# Altium schematic symbol library SCHLIB-PCSB_5.1.3.SchLib: 160 symbols
Pins are listed as number, name and electrical type; pins without a type are passive.

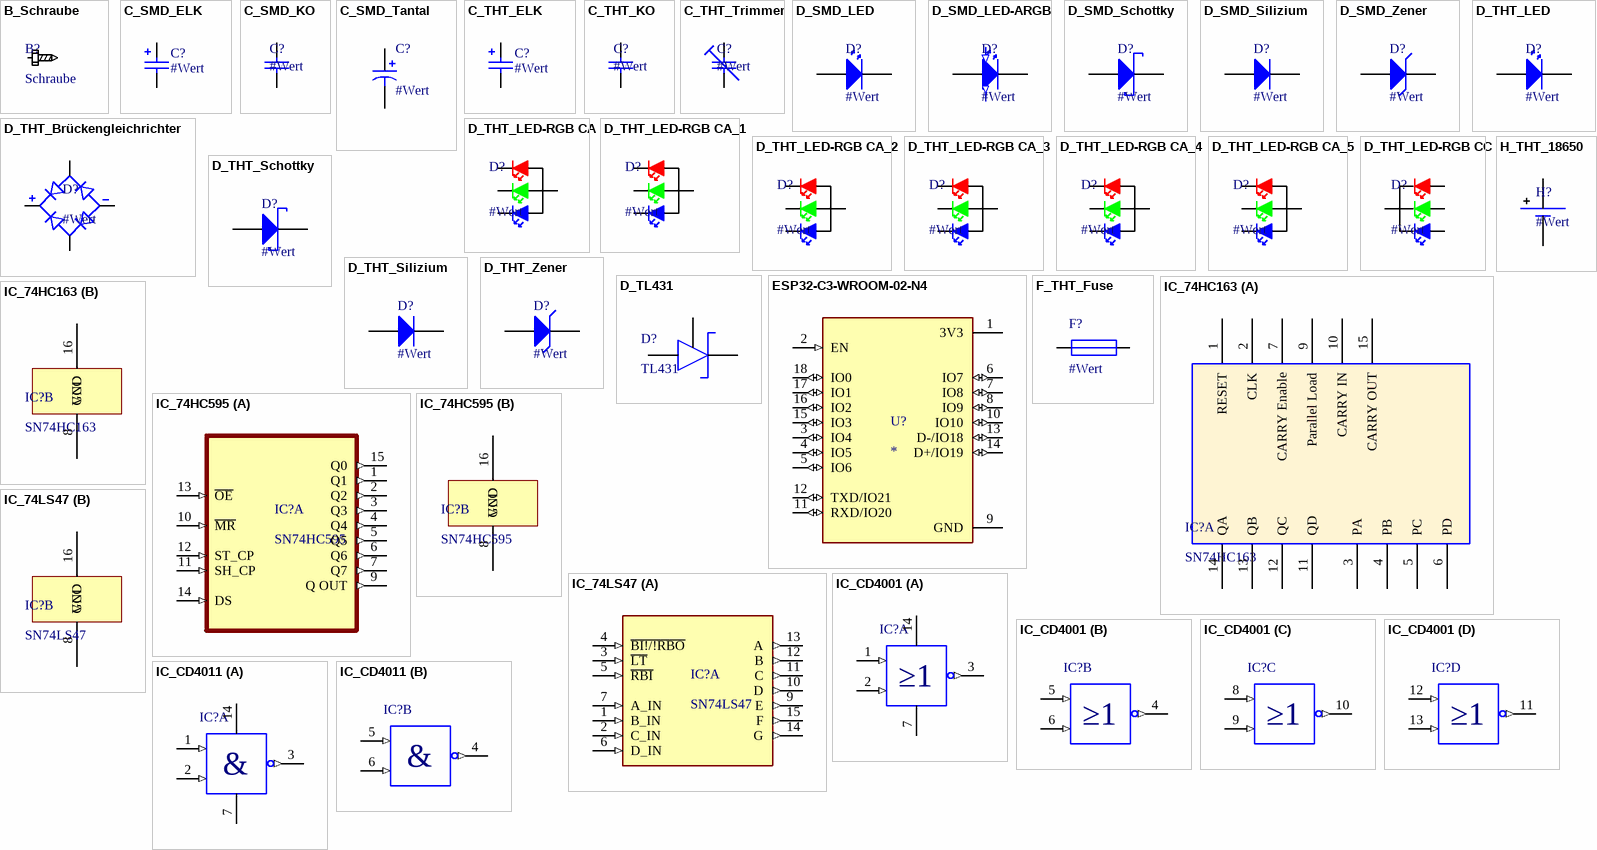
[diagram p0: symbols B_Schraube to IC_CD4011]

## B_Schraube
designator B?, comment Schraube
Schraubenloch für M3 Schrauben
footprint B_Schraube-M3 PAD (LB-2024-04-18)
footprint B_Schraube-M3 (LB-2024-04-18)
pins: 1 PAD

## C_SMD_ELK
designator C?, comment #Wert
SMD Elektrolytkondensator; Spannung: *; Bauform: *; Typ: *
footprint C_SMD_B-Typ (LB-2024-04-16)
footprint C_SMD_C-TYP (LB-2024-04-15)
footprint C_SMD_D-TYP (LB-2024-04-16)
footprint C_SMD_D8-TYP (LB-2024-04-16)
footprint C_SMD_F-TYP (LB-2024-04-16)
footprint C_SMD_G-TYP (LB-2024-04-16)
pins: 1, 2

## C_SMD_KO
designator C?, comment #Wert
Kondensator SMD Universal, Keramik, Folie, usw.; Spannung: *; Bauform: *; Typ: *
footprint C_SMD_0603 (LB-2024-04-17)
footprint C_SMD_0805 (LB-2024-04-17)
footprint C_SMD_1206 (LB-2024-04-17)
footprint C_SMD_1808C (LB-2024-04-17)
footprint C_SMD_2010R (LB-2024-04-17)
pins: 1, 2

## C_SMD_Tantal
designator C?, comment #Wert
Tantalkondensator
footprint C_SMD_Tan_1206 (LB-2024-04-25)
footprint C_SMD_B-Typ (LB-2024-04-16)
footprint C_SMD_C-TYP (LB-2024-04-15)
footprint C_SMD_D-TYP (LB-2024-04-16)
footprint C_SMD_D8-TYP (LB-2024-04-16)
footprint C_SMD_F-TYP (LB-2024-04-16)
footprint C_SMD_G-TYP (LB-2024-04-16)
pins: 1, 2

## C_THT_ELK
designator C?, comment #Wert
THT Elektrolytkondensator; Spannung: *; Bauform: *; Typ: *
footprint C_THT_RB-.3/.6 (LB-2024-04-15)
footprint C_THT_RB-.2/.4 (LB-2024-04-16)
footprint C_THT_RB-.1/.3 (LB-2024-04-15)
footprint C_THT_RB-.1/.2 (LB-2024-04-15)
pins: 1, 2

## C_THT_KO
designator C?, comment #Wert
Kondensator THT Universal, Keramik, Folie, usw.; Spannung: *; Bauform: *; Typ: *
footprint C_THT_RAD-0.2/.1 (LB-2024-04-17)
footprint C_THT_rad-7.2/2.5/5 (LB-2024-04-17)
footprint C_THT_RAD-7.2/3.5/5 (LB-2024-04-17)
footprint C_THT_RAD-.5/1.5
pins: 1, 2

## C_THT_Trimmer
designator C?, comment #Wert
Trimmkondensator; Spannung: *; Typ: *
footprint C_THT_Trimmer (LB-2024-04-19)
pins: 1, 2

## D_SMD_LED
designator D?, comment #Wert
Diode SMD LED; Spannung For.: 1,8V-3,6V; Spannung Rev.: *; Strom: *
footprint D_SMD_0603 (LB-2024-04-17)
footprint D_SMD_0805 (LB-2024-04-17)
footprint D_SMD_1206 (LB-2024-04-17)
footprint D_SMD_1808C (LB-2024-04-17)
footprint D_SMD_2010R (LB-2024-04-17)
pins: 1 A, 2 K

## D_SMD_LED-ARGB
designator D?, comment #Wert
Diode SMD ARGB
footprint D_SMD_LED-ARGB
pins: 1 VDD, 2 DOUT (out), 3 GND, 4 DIN (in)

## D_SMD_Schottky
designator D?, comment #Wert
Diode SMD Schottky; Spannung Rev.: 0,4V; Spannung For.: *; Strom: *
footprint D_SMD_0603 (LB-2024-04-17)
footprint D_SMD_0805 (LB-2024-04-17)
footprint D_SMD_1206 (LB-2024-04-17)
footprint D_SMD_1808C (LB-2024-04-17)
footprint D_SMD_2010R (LB-2024-04-17)
footprint D_SMD_DIO-123 (LB-2024-04-25)
footprint D_DO-214
footprint D_DO-221
pins: 1 A, 2 K

## D_SMD_Silizium
designator D?, comment #Wert
Diode SMD Silizium; Spannung For.: 0,7V; Spannung Rev.: *; Strom: *
footprint D_SMD_0603 (LB-2024-04-17)
footprint D_SMD_0805 (LB-2024-04-17)
footprint D_SMD_1206 (LB-2024-04-17)
footprint D_SMD_1808C (LB-2024-04-17)
footprint D_SMD_2010R (LB-2024-04-17)
footprint SOD-80-2 (SMD-Dioden Footprint z.b.: FDLL4148)
pins: 1 A, 2 K

## D_SMD_Zener
designator D?, comment #Wert
Diode SMD Zener; Spannung For.: *; Spannung Rev.: *; Strom: *
footprint D_SMD_0603 (LB-2024-04-17)
footprint D_SMD_0805 (LB-2024-04-17)
footprint D_SMD_1206 (LB-2024-04-17)
footprint D_SMD_1808C (LB-2024-04-17)
footprint D_SMD_2010R (LB-2024-04-17)
pins: 1 A, 2 K

## D_THT_Brückengleichrichter
designator D?, comment #Wert
Bruckengleichrichter
footprint D_THT_FBR-Gr. (LB-2024-04-18)
footprint D_THT_FBR-Kl. (LB-2024-04-18)
pins: 1 POS, 2 AC1, 3 AC2, 4 NEG

## D_THT_LED
designator D?, comment #Wert
Diode THT LED; Spannung For.: 1,8V-3,6V; Spannung Rev.: *; Strom: *
footprint D_THT_LED-3 (LB-2024-04-17)
footprint D_THT_LED-5 (LB-2024-04-17)
pins: 1 A, 2 K

## D_THT_LED-RGB CA
designator D?, comment #Wert
RGB LED Common Anode
footprint D_THT_RGBLED
pins: 1, 2, 3, 4

## D_THT_LED-RGB CA_1
designator D?, comment #Wert
RGB LED Common Anode
footprint D_THT_RGBLED
pins: 1, 2, 3, 4

## D_THT_LED-RGB CA_2
designator D?, comment #Wert
RGB LED Common Anode
footprint D_THT_RGBLED
pins: 1, 2, 3, 4

## D_THT_LED-RGB CA_3
designator D?, comment #Wert
RGB LED Common Anode
footprint D_THT_RGBLED
pins: 1, 2, 3, 4

## D_THT_LED-RGB CA_4
designator D?, comment #Wert
RGB LED Common Anode
footprint D_THT_RGBLED
pins: 1, 2, 3, 4

## D_THT_LED-RGB CA_5
designator D?, comment #Wert
RGB LED Common Anode
footprint D_THT_RGBLED
pins: 1, 2, 3, 4

## D_THT_LED-RGB CC
designator D?, comment #Wert
RGB LED Common Cathode
footprint D_THT_RGBLED
pins: 1, 2, 3, 4

## D_THT_Schottky
designator D?, comment #Wert
Diode THT Schottky; Spannung For.: 0,4V; Spannung Rev.: *; Strom: *
footprint D_THT_0.4 (LB-2024-04-17)
footprint D_THT_0.5 (LB-2024-04-17)
footprint D_THT_0.6 (LB-2024-04-17)
pins: 1 A, 2 K

## D_THT_Silizium
designator D?, comment #Wert
Diode THT Silizium; Spannung For.: 0,7V; Spannung Rev.: *; Strom: *
footprint D_THT_0.4 (LB-2024-04-17)
footprint D_THT_0.5 (LB-2024-04-17)
footprint D_THT_0.6 (LB-2024-04-17)
pins: 1 A, 2 K

## D_THT_Zener
designator D?, comment #Wert
Diode THT Zener; Spannung For.: *; Spannung Rev.: *; Strom: *
footprint D_THT_0.4 (LB-2024-04-17)
footprint D_THT_0.5 (LB-2024-04-17)
footprint D_THT_0.6 (LB-2024-04-17)
pins: 1 A, 2 K

## D_TL431
designator D?, comment TL431
Programmable Shunt Regulator Diode (NUR OHNE MFDT ENDE)
footprint D_THT_TO-92/3 (LB-2024-04-19)
footprint SOT-23
pins: 1 Kathode, 2 REF, 3 Anode

## ESP32-C3-WROOM-02-N4
designator U?
WiFi Modules (802.11) (Engineering Samples) SMD module, ESP32-C3, 4MB SPI flash, PCB antenna, -40 C +85 C; MF: Espressif Systems; MP: ESP32-C3-WROOM-02-N4; Value: *; SnapEDA_Link: https://www.snapeda.com/parts/ESP32-C3-WROOM-02-N4/Espressif+Systems/view-part/?ref=snap; Purchase-URL: https://pricing.snapeda.com/search/part/ESP32-C3-WROOM-02-N4/?ref=eda; Availability: In Stock; Price: None; Package: Package; Check_prices: https://www.snapeda.com/parts/ESP32-C3-WROOM-02-N4/Espressif+Systems/view-part/?ref=eda
footprint MODULE_ESP32-C3-WROOM-02-H4
pins: 1 3V3 (power), 2 EN (in), 3 IO4 (io), 4 IO5 (io), 5 IO6 (io), 6 IO7 (io), 7 IO8 (io), 8 IO9 (io), 9 GND (power), 10 IO10 (io), 11 RXD/IO20 (io), 12 TXD/IO21 (io), 13 D-/IO18 (io), 14 D+/IO19 (io), 15 IO3 (io), 16 IO2 (io), 17 IO1 (io), 18 IO0 (io)

## F_THT_Fuse
designator F?, comment #Wert
Sicherung; Strom: *; Auslösecharakteristik: *
footprint F_THT_Fuse2pol (LB-2024-04-17)
footprint R_SMD_1206 (LB-2024-04-17)
footprint F_OMF63_Schurtner
pins: 1, 2

## H_THT_18650
designator H?, comment #Wert
Zellenzahlter
footprint W_THT_Batholder_18650 (LB-2024-04-25)
pins: 1 +, 2 -

## IC_74HC163
designator IC?, comment SN74HC163
Counter-IC; Spannung: 2-6V
footprint DIP-16 (LB-2024-04-17)
part A pins: 1 RESET, 2 CLK, 3 PA, 4 PB, 5 PC, 6 PD, 7 CARRY Enable, 9 Parallel Load, 10 CARRY IN, 11 QD, 12 QC, 13 QB, 14 QA, 15 CARRY OUT
part B pins: 8 GND, 16 VCC

## IC_74HC595
designator IC?, comment SN74HC595
Schieberegister; MP: 74HC595PW/AUJ; MF: NXP Semiconductors; Value: *; Package: TSSOP-16 NXP Semiconductors; SnapEDA_Link: https://www.snapeda.com/parts/74HC595PW/AUJ/NXP%20Semiconductors/view-part/1039916/?ref=snap; Digi-Key_Part_Number: 74HC595PW/AUJ-ND
footprint DIP-16 (LB-2024-04-17)
footprint SO-16 (LB-2024-04-17)
footprint SOP-16
part A pins: 1 Q1 (out), 2 Q2 (out), 3 Q3 (out), 4 Q4 (out), 5 Q5 (out), 6 Q6 (out), 7 Q7 (out), 9 Q OUT (out), 10 ~{MR} (in), 11 SH_CP (in), 12 ST_CP (in), 13 ~{OE} (in), 14 DS (in), 15 Q0 (out)
part B pins: 8 GND, 16 VCC

## IC_74LS47
designator IC?, comment SN74LS47
BCD-to-Seven-Segment Decoders/Drivers 16-PDIP 0 to 70; MP: SN74LS47N; MF: Texas Instruments; SnapEDA_Link: https://www.snapeda.com/parts/SN74LS47N/Texas+Instruments/view-part/?ref=snap; Availability: In Stock; Price: None; Check_prices: https://www.snapeda.com/parts/SN74LS47N/Texas+Instruments/view-part/?ref=eda; Value: *; Purchase-URL: https://pricing.snapeda.com/search/part/SN74LS47N/?ref=eda; Package: PDIP-16 Texas Instruments
footprint DIP-16 (LB-2024-04-17)
footprint SO-16 (LB-2024-04-17)
part A pins: 1 B_IN (in), 2 C_IN (in), 3 ~{LT} (in), 4 ~{BI!/!RBO} (in), 5 ~{RBI} (in), 6 D_IN (in), 7 A_IN (in), 9 E (out), 10 D (out), 11 C (out), 12 B (out), 13 A (out), 14 G (out), 15 F (out)
part B pins: 8 GND, 16 VCC

## IC_CD4001
designator IC?, comment CD4001  (value not drawn)
NOR Gatter
footprint DIP-14 (LB-2024-04-17)
footprint SO-14 (LB-2024-04-17)
part A pins: 1 A (in), 2 B (in), 3 OUTAB (out), 7 GND (power), 14 V+ (power)
part B pins: 4 OUTCD (out), 5 C (in), 6 D (in)
part C pins: 8 E (in), 9 F (in), 10 OUTEF (out)
part D pins: 11 OUTGH (out), 12 G (in), 13 H (in)
part A text: ≥1
part B text: ≥1
part C text: ≥1
part D text: ≥1

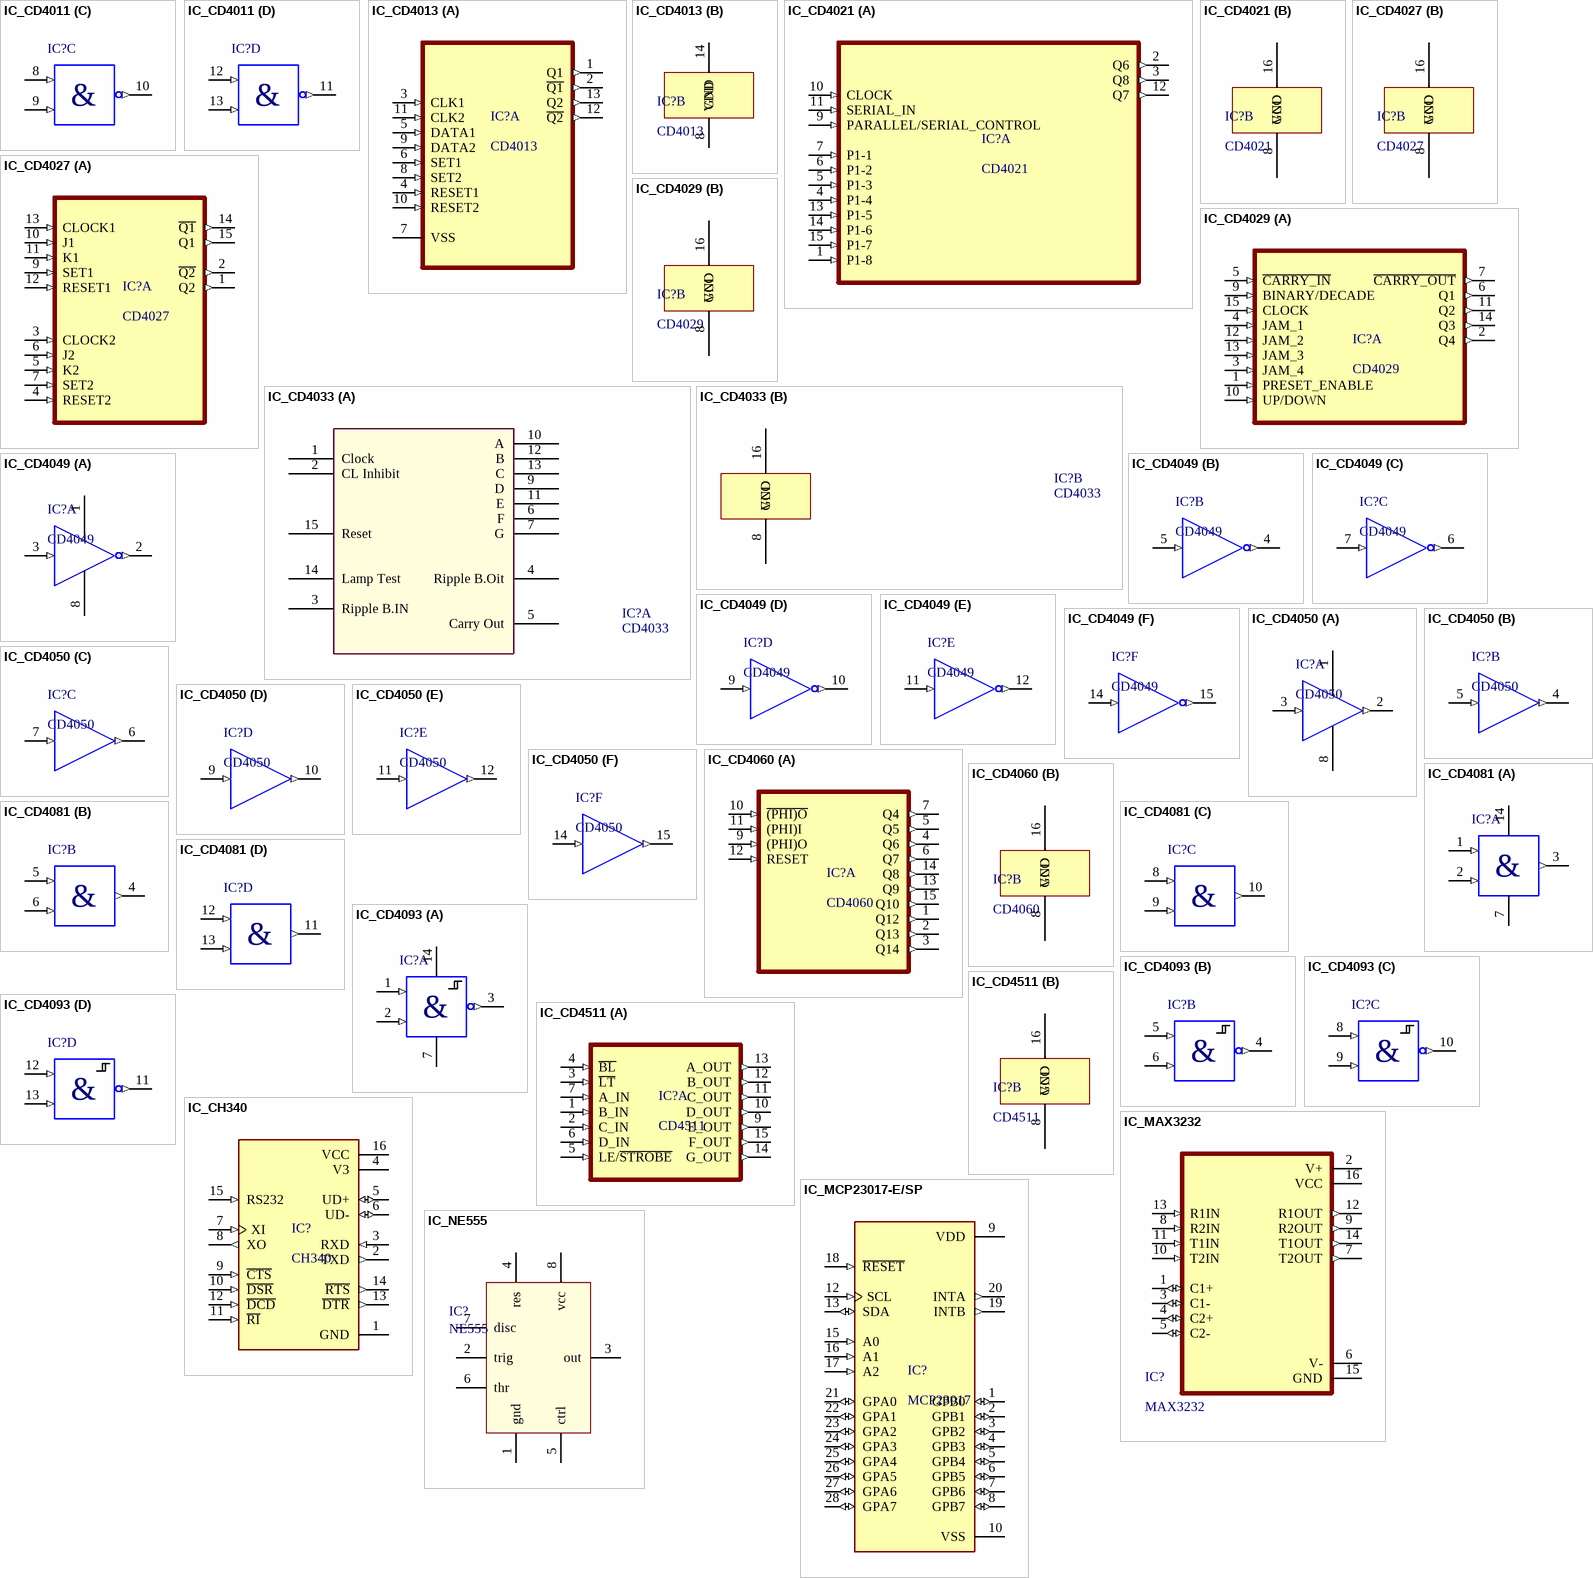
[diagram p1: symbols IC_CD4011 to IC_NE555]

## IC_CD4011
designator IC?, comment CD4011  (value not drawn)
NAND Gatter
footprint DIP-14 (LB-2024-04-17)
footprint SO-14 (LB-2024-04-17)
part A pins: 1 A (in), 2 B (in), 3 OUTAB (out), 7 GND (power), 14 V+ (power)
part B pins: 4 OUTCD (out), 5 C (in), 6 D (in)
part C pins: 8 E (in), 9 F (in), 10 OUTEF (out)
part D pins: 11 OUTGH (out), 12 G (in), 13 H (in)
part A text: &
part B text: &
part C text: &
part D text: &

## IC_CD4013
designator IC?, comment CD4013
D-FlipFlop
footprint SO-14 (LB-2024-04-17)
footprint DIP-14 (LB-2024-04-17)
part A pins: 1 Q1 (out), 2 ~{Q1} (out), 3 CLK1 (in), 4 RESET1 (in), 5 DATA1 (in), 6 SET1 (in), 7 VSS (power), 8 SET2 (in), 9 DATA2 (in), 10 RESET2 (in), 11 CLK2 (in), 12 ~{Q2} (out), 13 Q2 (out)
part B pins: 8 GND, 14 VDD (power)

## IC_CD4021
designator IC?, comment CD4021
Schieberegister
footprint DIP-16 (LB-2024-04-17)
footprint SO-16 (LB-2024-04-17)
part A pins: 1 P1-8 (in), 2 Q6 (out), 3 Q8 (out), 4 P1-4 (in), 5 P1-3 (in), 6 P1-2 (in), 7 P1-1 (in), 9 PARALLEL/SERIAL_CONTROL (in), 10 CLOCK (in), 11 SERIAL_IN (in), 12 Q7 (out), 13 P1-5 (in), 14 P1-6 (in), 15 P1-7 (in)
part B pins: 8 GND, 16 VCC

## IC_CD4027
designator IC?, comment CD4027
JK-FlipFlop
footprint DIP-16 (LB-2024-04-17)
footprint SO-16 (LB-2024-04-17)
part A pins: 1 Q2 (out), 2 ~{Q2} (out), 3 CLOCK2 (in), 4 RESET2 (in), 5 K2 (in), 6 J2 (in), 7 SET2 (in), 9 SET1 (in), 10 J1 (in), 11 K1 (in), 12 RESET1 (in), 13 CLOCK1 (in), 14 ~{Q1} (out), 15 Q1 (out)
part B pins: 8 GND, 16 VCC

## IC_CD4029
designator IC?, comment CD4029
UP/Down Counter
footprint DIP-16 (LB-2024-04-17)
footprint SO-16 (LB-2024-04-17)
part A pins: 1 PRESET_ENABLE (in), 2 Q4 (out), 3 JAM_4 (in), 4 JAM_1 (in), 5 ~{CARRY_IN} (in), 6 Q1 (out), 7 ~{CARRY_OUT} (out), 9 BINARY/DECADE (in), 10 UP/DOWN (in), 11 Q2 (out), 12 JAM_2 (in), 13 JAM_3 (in), 14 Q3 (out), 15 CLOCK (in)
part B pins: 8 GND, 16 VCC

## IC_CD4033
designator IC?, comment CD4033
Counter/Divider
footprint DIP-16 (LB-2024-04-17)
footprint SO-16 (LB-2024-04-17)
part A pins: 1 Clock, 2 CL Inhibit, 3 Ripple B.IN, 4 Ripple B.Oit, 5 Carry Out, 6 F, 7 G, 9 D, 10 A, 11 E, 12 B, 13 C, 14 Lamp Test, 15 Reset
part B pins: 8 GND, 16 VCC

## IC_CD4049
designator IC?, comment CD4049
Hex Inverter
footprint DIP-16 (LB-2024-04-17)
part A pins: 1 V+ (power), 2 OUTAB (out), 3 B (in), 8 GND (power)
part B pins: 4 OUTAB (out), 5 B (in)
part C pins: 6 OUTAB (out), 7 B (in)
part D pins: 9 B (in), 10 OUTAB (out)
part E pins: 11 B (in), 12 OUTAB (out)
part F pins: 14 B (in), 15 OUTAB (out)

## IC_CD4050
designator IC?, comment CD4050
Hex Buffer
footprint DIP-16 (LB-2024-04-17)
part A pins: 1 V+ (power), 2 OUTAB (out), 3 B (in), 8 GND (power)
part B pins: 4 OUTAB (out), 5 B (in)
part C pins: 6 OUTAB (out), 7 B (in)
part D pins: 9 B (in), 10 OUTAB (out)
part E pins: 11 B (in), 12 OUTAB (out)
part F pins: 14 B (in), 15 OUTAB (out)

## IC_CD4060
designator IC?, comment CD4060
14 Stage Counter
footprint DIP-16 (LB-2024-04-17)
footprint SO-16 (LB-2024-04-17)
part A pins: 1 Q12 (out), 2 Q13 (out), 3 Q14 (out), 4 Q6 (out), 5 Q5 (out), 6 Q7 (out), 7 Q4 (out), 9 (PHI)O (in), 10 ~{(PHI)O} (in), 11 (PHI)I (in), 12 RESET (in), 13 Q9 (out), 14 Q8 (out), 15 Q10 (out)
part B pins: 8 GND, 16 VCC

## IC_CD4081
designator IC?, comment CD4081  (value not drawn)
AND Gatter
footprint DIP-14 (LB-2024-04-17)
footprint SO-14 (LB-2024-04-17)
part A pins: 1 A (in), 2 B (in), 3 OUTAB (out), 7 GND (power), 14 V+ (power)
part B pins: 4 OUTCD (out), 5 C (in), 6 D (in)
part C pins: 8 E (in), 9 F (in), 10 OUTEF (out)
part D pins: 11 OUTGH (out), 12 G (in), 13 H (in)
part A text: &
part B text: &
part C text: &
part D text: &

## IC_CD4093
designator IC?, comment CD4093  (value not drawn)
Schmitttrigger NAND Gatter
footprint DIP-14 (LB-2024-04-17)
footprint SO-14 (LB-2024-04-17)
part A pins: 1 A (in), 2 B (in), 3 OUTAB (out), 7 GND (power), 14 V+ (power)
part B pins: 4 OUTCD (out), 5 C (in), 6 D (in)
part C pins: 8 E (in), 9 F (in), 10 OUTEF (out)
part D pins: 11 OUTGH (out), 12 G (in), 13 H (in)
part A text: &
part B text: &
part C text: &
part D text: &

## IC_CD4511
designator IC?, comment CD4511
BCD
footprint DIP-16 (LB-2024-04-17)
part A pins: 1 B_IN (in), 2 C_IN (in), 3 ~{LT} (in), 4 ~{BL} (in), 5 LE/~{STROBE} (in), 6 D_IN (in), 7 A_IN (in), 9 E_OUT (out), 10 D_OUT (out), 11 C_OUT (out), 12 B_OUT (out), 13 A_OUT (out), 14 G_OUT (out), 15 F_OUT (out)
part B pins: 8 GND, 16 VCC

## IC_CH340
designator IC?, comment CH340
UART
footprint SO-16 (LB-2024-04-17)
pins: 1 GND (power), 2 TXD (out), 3 RXD (in), 4 V3 (power), 5 UD+ (io), 6 UD- (io), 7 XI (in), 8 XO (out), 9 ~{CTS} (in), 10 ~{DSR} (in), 11 ~{RI} (in), 12 ~{DCD} (in), 13 ~{DTR} (out), 14 ~{RTS} (out), 15 RS232 (in), 16 VCC (power)

## IC_MAX3232
designator IC?, comment MAX3232
RS-232 Line Driver
footprint SO-16 (LB-2024-04-17)
pins: 1 C1+ (io), 2 V+ (power), 3 C1- (io), 4 C2+ (io), 5 C2- (io), 6 V- (power), 7 T2OUT (out), 8 R2IN (in), 9 R2OUT (out), 10 T2IN (in), 11 T1IN (in), 12 R1OUT (out), 13 R1IN (in), 14 T1OUT (out), 15 GND (power), 16 VCC (power)

## IC_MCP23017-E/SP
designator IC?, comment MCP23017
I2C Port Expander
footprint DIP-28 (LB-2024-04-17)
pins: 1 GPB0 (io), 2 GPB1 (io), 3 GPB2 (io), 4 GPB3 (io), 5 GPB4 (io), 6 GPB5 (io), 7 GPB6 (io), 8 GPB7 (io), 9 VDD (power), 10 VSS (power), 12 SCL (in), 13 SDA (io), 15 A0 (in), 16 A1 (in), 17 A2 (in), 18 ~{RESET} (in), 19 INTB (out), 20 INTA (out), 21 GPA0 (io), 22 GPA1 (io), 23 GPA2 (io), 24 GPA3 (io), 25 GPA4 (io), 26 GPA5 (io), 27 GPA6 (io), 28 GPA7 (io)

## IC_NE555
designator IC?, comment NE555
Timer
footprint DIP-8 (LB-2024-04-17)
footprint SO-8 (LB-2024-04-17)
pins: 1 gnd, 2 trig, 3 out, 4 res, 5 ctrl, 6 thr, 7 disc, 8 vcc

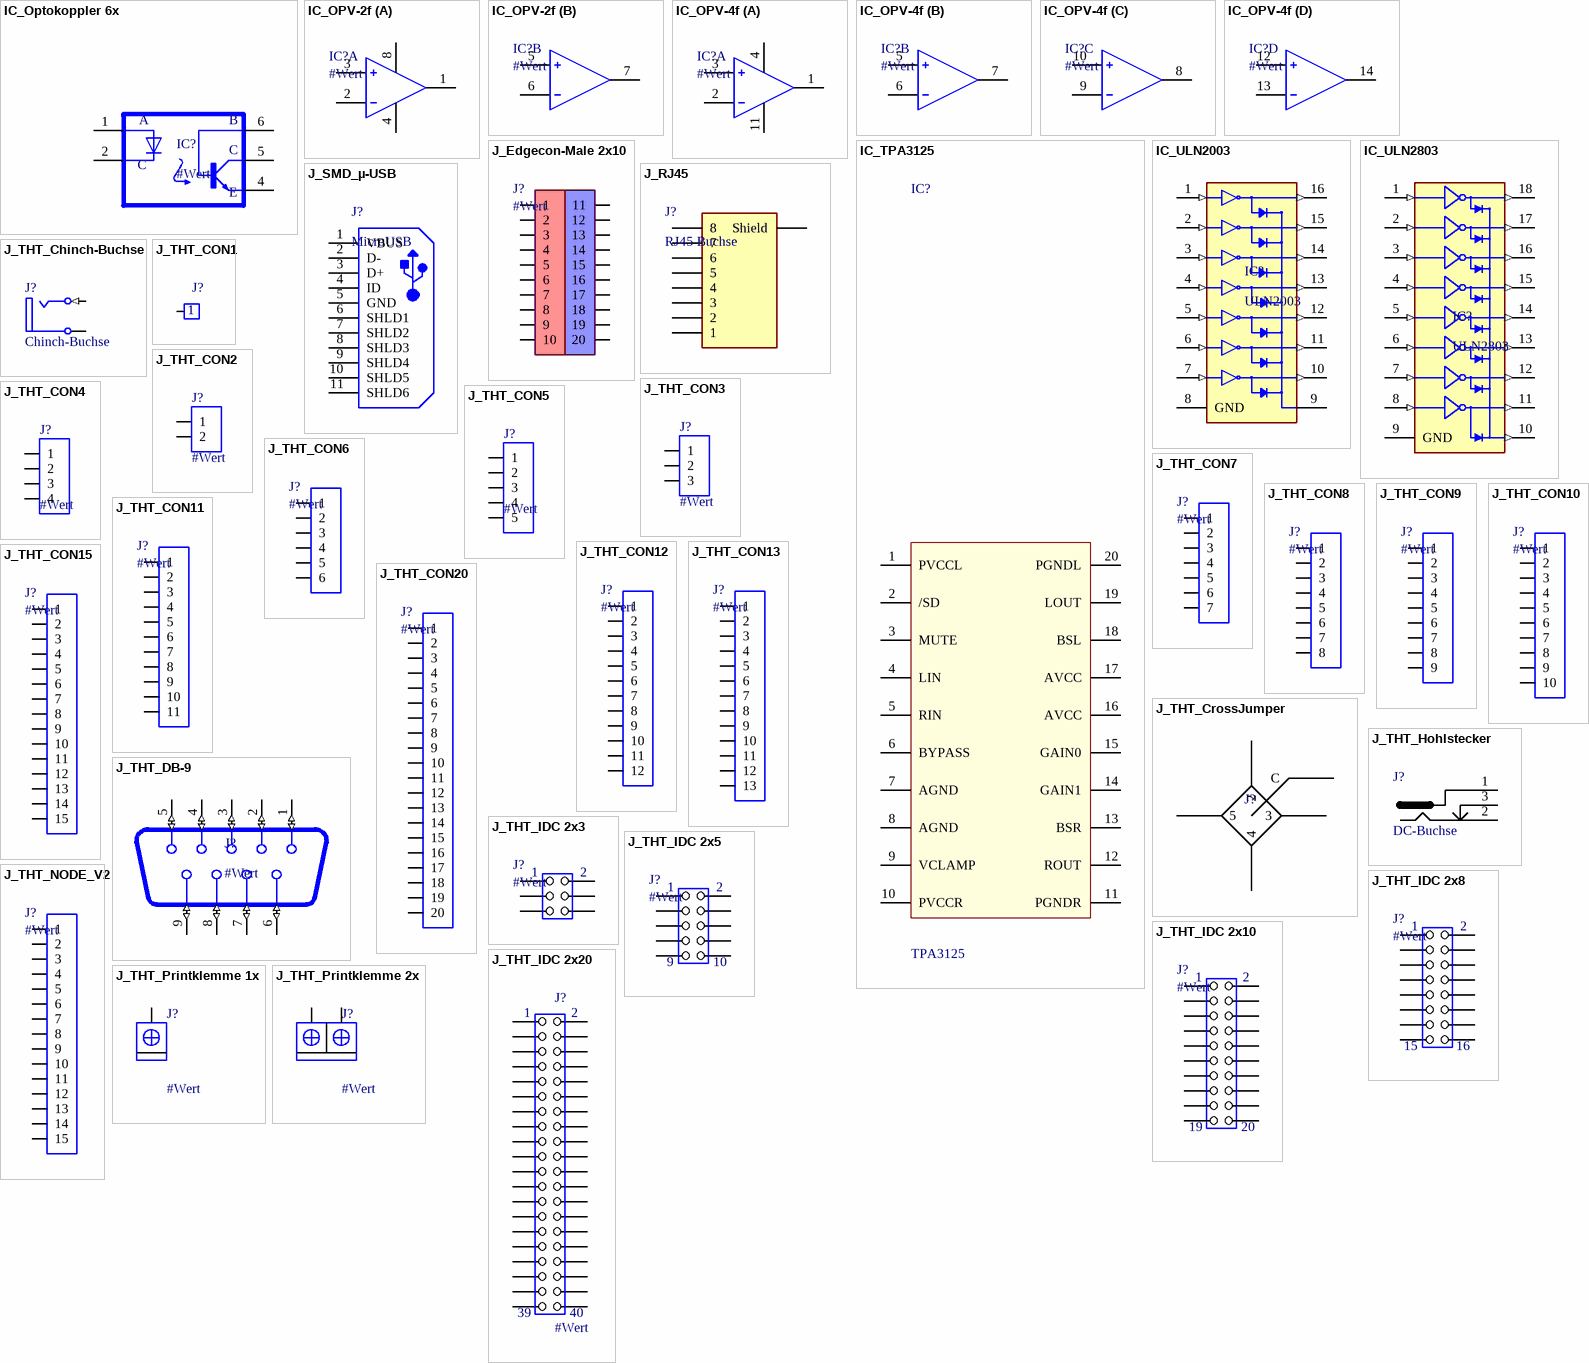
[diagram p2: symbols IC_Optokoppler 6x to J_THT_Printklemme 2x]

## IC_Optokoppler 6x
designator IC?, comment #Wert
Optokoppler like CNY17
footprint DIP-6 (LB-2024-04-17)
pins: 1 A, 2 C, 4 E, 5 C`, 6
text: B

## IC_OPV-2f
designator IC?, comment #Wert
Operationsverstärker
footprint DIP-8 (LB-2024-04-17)
footprint SO-8 (LB-2024-04-17)
part A pins: 1 out, 2 I, 3 NI, 4 Vee, 8 Vcc
part B pins: 5 NI, 6 I, 7 out

## IC_OPV-4f
designator IC?, comment #Wert
Operationsverstärker
footprint DIP-14 (LB-2024-04-17)
footprint SO-14 (LB-2024-04-17)
part A pins: 1 out, 2 I, 3 NI, 4 Vcc, 11 Vee
part B pins: 5 NI, 6 I, 7 out
part C pins: 8 out, 9 I, 10 NI
part D pins: 12 NI, 13 I, 14 out

## IC_TPA3125
designator IC?, comment TPA3125
Class-D IC
footprint DIP-20 (LB-2024-04-17)
pins: 1 PVCCL, 2 /SD, 3 MUTE, 4 LIN, 5 RIN, 6 BYPASS, 7 AGND, 8 AGND, 9 VCLAMP, 10 PVCCR, 11 PGNDR, 12 ROUT, 13 BSR, 14 GAIN1, 15 GAIN0, 16 AVCC, 17 AVCC, 18 BSL, 19 LOUT, 20 PGNDL

## IC_ULN2003
designator IC?, comment ULN2003
Darlingtor-Transistor
footprint DIP-16 (LB-2024-04-17)
footprint SO-16 (LB-2024-04-17)
pins: 1 1B (in), 2 2B (in), 3 3B (in), 4 4B (in), 5 5B (in), 6 6B (in), 7 7B (in), 8 GND (power), 9 COM, 10 7C (out), 11 6C (out), 12 5C (out), 13 4C (out), 14 3C (out), 15 2C (out), 16 1C (out)

## IC_ULN2803
designator IC?, comment ULN2803
Darlington-Transistor
footprint DIP-18 (LB-2024-04-17)
pins: 1 IN_1 (in), 2 IN_2 (in), 3 IN_3 (in), 4 IN_4 (in), 5 IN_5 (in), 6 IN_6 (in), 7 IN_7 (in), 8 IN_8 (in), 9 GND (power), 10 COMMON (out), 11 OUT_8 (out), 12 OUT_7 (out), 13 OUT_6 (out), 14 OUT_5 (out), 15 OUT_4 (out), 16 OUT_3 (out), 17 OUT_2 (out), 18 OUT_1 (out)

## J_Edgecon-Male 2x10
designator J?, comment #Wert
Stecker
footprint J_Edgecon-Male_2x10 (PS-2024-06-15)
pins: 1, 2, 3, 4, 5, 6, 7, 8, 9, 10, 11, 12, 13, 14, 15, 16, 17, 18, 19, 20

## J_RJ45
designator J?, comment RJ45 Buchse
Connector
footprint J_SMD_RJ45 (LB-2024-05-31)
pins: 1, 2, 3, 4, 5, 6, 7, 8, MP Shield

## J_SMD_µ-USB
designator J?, comment MicroUSB
Micro USB Buchse
footprint J-SMD-Micro-USB (LB-2024-04-18)
pins: 1 VBUS, 2 D-, 3 D+, 4 ID, 5 GND, 6 SHLD1, 7 SHLD2, 8 SHLD3, 9 SHLD4, 10 SHLD5, 11 SHLD6

## J_THT_Chinch-Buchse
designator J?, comment Chinch-Buchse
footprint J_THT_CHINCH (LB-2024-04-19)
pins: 1 T (in) "Tip", 2 S (power) "Sleeve (Ground)"

## J_THT_CON1
designator J?, comment #Wert  (value not drawn)
Stecker
footprint SIP-1 (LB-2024-04-17)
pins: 1

## J_THT_CON2
designator J?, comment #Wert
Stecker
footprint SIP-2 (LB-2024-04-17)
pins: 1, 2

## J_THT_CON3
designator J?, comment #Wert
Stecker
footprint Sip-3 (LB-2024-04-17)
pins: 1, 2, 3

## J_THT_CON4
designator J?, comment #Wert
Stecker
footprint Sip-4 (LB-2024-04-17)
pins: 1, 2, 3, 4

## J_THT_CON5
designator J?, comment #Wert
Stecker
footprint SIP-5 (LB-2024-04-17)
pins: 1, 2, 3, 4, 5

## J_THT_CON6
designator J?, comment #Wert
Stecker
footprint SIP-6 (LB-2024-04-17)
pins: 1, 2, 3, 4, 5, 6

## J_THT_CON7
designator J?, comment #Wert
Stecker
footprint SIP-7 (LB-2024-04-17)
pins: 1, 2, 3, 4, 5, 6, 7

## J_THT_CON8
designator J?, comment #Wert
Stecker
footprint SIP-8 (LB-2024-04-17)
pins: 1, 2, 3, 4, 5, 6, 7, 8

## J_THT_CON9
designator J?, comment #Wert
Stecker
footprint SIP-9 (LB-2024-04-17)
pins: 1, 2, 3, 4, 5, 6, 7, 8, 9

## J_THT_CON10
designator J?, comment #Wert
Stecker
footprint SIP-10 (LB-2024-04-17)
pins: 1, 2, 3, 4, 5, 6, 7, 8, 9, 10

## J_THT_CON11
designator J?, comment #Wert
Stecker
footprint SIP-11 (LB-2024-04-17)
pins: 1, 2, 3, 4, 5, 6, 7, 8, 9, 10, 11

## J_THT_CON12
designator J?, comment #Wert
Stecker
footprint SIP-12 (LB-2024-04-17)
pins: 1, 2, 3, 4, 5, 6, 7, 8, 9, 10, 11, 12

## J_THT_CON13
designator J?, comment #Wert
Stecker
footprint SIP-13 (LB-2024-04-17)
pins: 1, 2, 3, 4, 5, 6, 7, 8, 9, 10, 11, 12, 13

## J_THT_CON15
designator J?, comment #Wert
Stecker
footprint SIP-15 (LB-2024-04-17)
pins: 1, 2, 3, 4, 5, 6, 7, 8, 9, 10, 11, 12, 13, 14, 15

## J_THT_CON20
designator J?, comment #Wert
Stecker
footprint SIP-20 (LB-2024-04-17)
pins: 1, 2, 3, 4, 5, 6, 7, 8, 9, 10, 11, 12, 13, 14, 15, 16, 17, 18, 19, 20

## J_THT_CrossJumper
designator J?, comment #Wert  (value not drawn)
4 Fach Crossjumper
footprint J_THT_CrossJumper (LB-2024-04-19)
pins: 1 C, 2, 3, 4, 5

## J_THT_DB-9
designator J?, comment #Wert
DB-9 Buchse; MF: Wurth Electronics; MP: 618009231121; Package: None; Price: None; Value: *; SnapEDA_Link: https://www.snapeda.com/parts/618009231121/Wurth+Electronics+Inc/view-part/?ref=snap; Availability: In Stock; Check_prices: https://www.snapeda.com/parts/618009231121/Wurth+Electronics+Inc/view-part/?ref=eda
footprint J_THT_DB9H (LB-2024-04-17)
pins: 1 (io), 2 (io), 3 (io), 4 (io), 5 (io), 6 (io), 7 (io), 8 (io), 9 (io)

## J_THT_Hohlstecker
designator J?, comment DC-Buchse
footprint J_THT_CJ-25 (LB-2024-04-19)
pins: 1, 2, 3

## J_THT_IDC 2x3
designator J?, comment #Wert
Stecker
footprint J_2x3 (LB-2024-04-19)
pins: 1, 2, 3, 4, 5, 6

## J_THT_IDC 2x5
designator J?, comment #Wert
Stecker
footprint J_2x5H IDC (LB-2024-04-19)
footprint J_2x5V IDC (LB-2024-04-19)
pins: 1, 2, 3, 4, 5, 6, 7, 8, 9, 10

## J_THT_IDC 2x8
designator J?, comment #Wert
Stecker
footprint J_2x8 (LB-2024-04-19)
pins: 1, 2, 3, 4, 5, 6, 7, 8, 9, 10, 11, 12, 13, 14, 15, 16

## J_THT_IDC 2x10
designator J?, comment #Wert
Stecker
footprint J_2x10 (LB-2024-4-19)
pins: 1, 2, 3, 4, 5, 6, 7, 8, 9, 10, 11, 12, 13, 14, 15, 16, 17, 18, 19, 20

## J_THT_IDC 2x20
designator J?, comment #Wert
IDC-Con 2x20
footprint J_2x20 (LB-2024-4-19)
pins: 1, 2, 3, 4, 5, 6, 7, 8, 9, 10, 11, 12, 13, 14, 15, 16, 17, 18, 19, 20, 21, 22, 23, 24, 25, 26, 27, 28, 29, 30, 31, 32, 33, 34, 35, 36, 37, 38, 39, 40

## J_THT_NODE_V2
designator J?, comment #Wert
Stecker
footprint SIP-15_Node_V2 (LB-2024-04-17)
pins: 1, 2, 3, 4, 5, 6, 7, 8, 9, 10, 11, 12, 13, 14, 15

## J_THT_Printklemme 1x
designator J?, comment #Wert
Printklemme
footprint J_THT_Printklemme 1x (LB-2024-04-17)
pins: 1

## J_THT_Printklemme 2x
designator J?, comment #Wert
Printklemme
footprint J_THT_Printklemme 2x (LB-2024-04-17)
footprint J_THT_PK-S 2x (LB-2024-05-03g)
pins: 1, 2

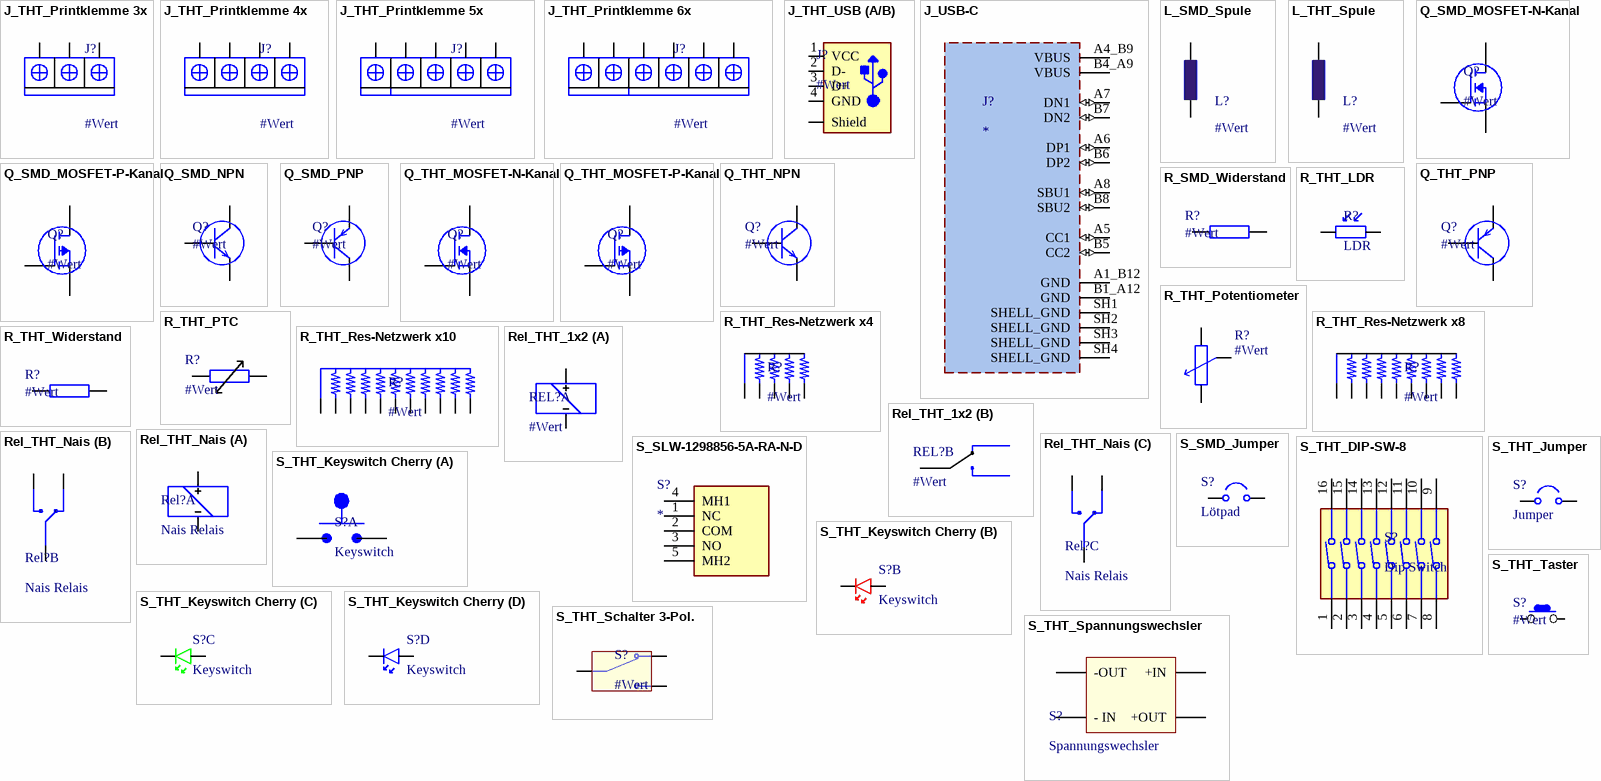
[diagram p3: symbols J_THT_Printklemme 3x to S_THT_Taster]

## J_THT_Printklemme 3x
designator J?, comment #Wert
Printklemme
footprint J_THT_Printklemme 3x (LB-2024-04-17)
footprint J_THT_PK-S 3x (LB-2024-05-03g)
pins: 1, 2, 3 2

## J_THT_Printklemme 4x
designator J?, comment #Wert
Printklemme
footprint J_THT_Printklemme 4x (LB-2024-04-17)
pins: 1, 2, 3 2, 4 2

## J_THT_Printklemme 5x
designator J?, comment #Wert
Stecker
footprint J_THT_Printklemme 5x (LB-2024-04-17)
pins: 1, 2, 3 2, 4 2, 5 2

## J_THT_Printklemme 6x
designator J?, comment #Wert
Printklemme
footprint J_THT_Printklemme 6x (LB-2024-04-17)
pins: 1, 2, 3 2, 4 2, 5 2, 6 2

## J_THT_USB (A/B)
designator J?, comment #Wert
USB Buchse
footprint J_THT_USB-B (LB-2024-04-15)
footprint J_THT_USB-A (LB-2024-04-29)
pins: 1 VCC (power), 2 D- (io), 3 D+ (io), 4 GND (power), SH Shield (power)

## J_USB-C
designator J?
USB4105-GF-; MF: {'manufacturer': u'GCT'}; MP: USB4105-GF-A; Package: None; Price: None; Value: *; Availability: Unavailable
footprint GCT_USB4105-GF-A
pins: A1_B12 GND (power), A4_B9 VBUS (power), A5 CC1 (io), A6 DP1 (io), A7 DN1 (io), A8 SBU1 (io), B1_A12 GND (power), B4_A9 VBUS (power), B5 CC2 (io), B6 DP2 (io), B7 DN2 (io), B8 SBU2 (io), SH1 SHELL_GND (power), SH2 SHELL_GND (power), SH3 SHELL_GND (power), SH4 SHELL_GND (power)

## L_SMD_Spule
designator L?, comment #Wert
Spule SMD
footprint L_SMD_NPIS42LS (LB-2024-04-17)
footprint L_SMD_1808C (LB-2024-04-17)
footprint L_SMD_TYA4020 (LB-2024-04-25)
footprint L_SMD_74438357100
pins: 1, 2

## L_THT_Spule
designator L?, comment #Wert
Spule THT
footprint L_THT_5.08 x 8 (LB-2024-04-17)
footprint L_THT_Axial-0.4
pins: 1, 2

## Q_SMD_MOSFET-N-Kanal
designator Q?, comment #Wert
N-Kanal MOSFET; MP: IRFZ44NPBF; MF: Infineon; Check_prices: https://www.snapeda.com/parts/IRFZ44NPBF/Infineon+Technologies/view-part/?ref=eda; Package: TO-220-3 Infineon; SnapEDA_Link: https://www.snapeda.com/parts/IRFZ44NPBF/Infineon+Technologies/view-part/?ref=snap; Value: *; Digi-Key_Part_Number: IRFZ44NPBF-ND; Purchase-URL: https://pricing.snapeda.com/search/part/IRFZ44NPBF/?ref=eda
footprint SOT-23
pins: D, G, S

## Q_SMD_MOSFET-P-Kanal
designator Q?, comment #Wert
P-Kanal MOSFET; MP: IRFZ44NPBF; MF: Infineon; Check_prices: https://www.snapeda.com/parts/IRFZ44NPBF/Infineon+Technologies/view-part/?ref=eda; Package: TO-220-3 Infineon; SnapEDA_Link: https://www.snapeda.com/parts/IRFZ44NPBF/Infineon+Technologies/view-part/?ref=snap; Value: *; Digi-Key_Part_Number: IRFZ44NPBF-ND; Purchase-URL: https://pricing.snapeda.com/search/part/IRFZ44NPBF/?ref=eda
footprint SOT-23
footprint FDD6637_TO-252-3
pins: D, G, S

## Q_SMD_NPN
designator Q?, comment #Wert
NPN Transistor
footprint SOT-23-3_BC846 (SMD Footprint für BC846)
pins: B, C, E

## Q_SMD_PNP
designator Q?, comment #Wert
PNP Transistor
footprint SOT-23
pins: B, C, E

## Q_THT_MOSFET-N-Kanal
designator Q?, comment #Wert
N-Kanal MOSFET; MP: IRFZ44NPBF; MF: Infineon; Check_prices: https://www.snapeda.com/parts/IRFZ44NPBF/Infineon+Technologies/view-part/?ref=eda; Package: TO-220-3 Infineon; SnapEDA_Link: https://www.snapeda.com/parts/IRFZ44NPBF/Infineon+Technologies/view-part/?ref=snap; Value: *; Digi-Key_Part_Number: IRFZ44NPBF-ND; Purchase-URL: https://pricing.snapeda.com/search/part/IRFZ44NPBF/?ref=eda
footprint TO-220-3V (LB-2024-04-17)
pins: D S, G, S D

## Q_THT_MOSFET-P-Kanal
designator Q?, comment #Wert
P-Kanal MOSFET; MP: IRFZ44NPBF; MF: Infineon; Check_prices: https://www.snapeda.com/parts/IRFZ44NPBF/Infineon+Technologies/view-part/?ref=eda; Package: TO-220-3 Infineon; SnapEDA_Link: https://www.snapeda.com/parts/IRFZ44NPBF/Infineon+Technologies/view-part/?ref=snap; Value: *; Digi-Key_Part_Number: IRFZ44NPBF-ND; Purchase-URL: https://pricing.snapeda.com/search/part/IRFZ44NPBF/?ref=eda
footprint TO-220-3V (LB-2024-04-17)
pins: D, G, S

## Q_THT_NPN
designator Q?, comment #Wert
NPN Transistor
footprint TO3 (LB-2024-04-17)
footprint TO-92-3 (LB-2024-04-17)
footprint TO-220-3H (LB-2024-04-17)
footprint TO-220-3V (LB-2024-04-17)
pins: B, C, E

## Q_THT_PNP
designator Q?, comment #Wert
PNP Transistor
footprint TO-92-3 (LB-2024-04-17)
footprint TO-220-3H (LB-2024-04-17)
footprint TO-220-3V (LB-2024-04-17)
pins: B, C, E

## R_SMD_Widerstand
designator R?, comment #Wert
Widerstand SMD
footprint R_SMD_0603 (LB-2024-04-17)
footprint R_SMD_0805 (LB-2024-04-17)
footprint R_SMD_1206 (LB-2024-04-17)
footprint R_SMD_1808C (LB-2024-04-17)
footprint R_SMD_2010R (LB-2024-04-17)
pins: 1, 2

## R_THT_LDR
designator R?, comment LDR
Light Dependent Resistor
footprint R_THT_LDR (LB-2024-04-18)
pins: 1, 2

## R_THT_Potentiometer
designator R?, comment #Wert
Potentiometer; Set Position: 0.5
footprint R_THT_POT-TP-.2/.4 (LB-2024-04-17)
footprint R_THT_POT-PT15 (LB-2024-04-17)
footprint R_THT_POT-ALPS_V
pins: 1, 2, 3

## R_THT_PTC
designator R?, comment #Wert
Temperatur Widerstand PTC
footprint TO-92-2 (LB-2024-04-18)
pins: 1, 2

## R_THT_Res-Netzwerk x4
designator R?, comment #Wert
Widerstandsnetzwerk 4x
footprint SIP-5 (LB-2024-04-17)
pins: 1, 2, 3, 4, 5

## R_THT_Res-Netzwerk x8
designator R?, comment #Wert
Widerstandsnetzwerk 8x
footprint SIP-9
pins: 1, 2, 3, 4, 5, 6, 7, 8, 9

## R_THT_Res-Netzwerk x10
designator R?, comment #Wert
Widerstandsnetzwerk 10x
footprint SIP-11
pins: 1, 2, 3, 4, 5, 6, 7, 8, 9, 10, 11

## R_THT_Widerstand
designator R?, comment #Wert
Widerstand THT
footprint R_THT_Axial-0.4 (LB-2024-04-17)
footprint R_THT_Axial-0.7 (LB-2024-04-17)
footprint R_THT_Rad
pins: 1, 2

## Rel_THT_1x2
designator REL?, comment #Wert
Relais 1 Öffner, 1 Schließer
footprint Rel_THT_1x 2 (LB-2024-04-18)
part A pins: 1 +, 2
part B pins: 3, 4 NO, 5

## Rel_THT_Nais
designator Rel?, comment Nais Relais
Nais DS2Y-S-DC12V
footprint Rel_THT_Nais (LB-2024-04-17)
part A pins: 4, 5
part B pins: 1, 2, 3
part C pins: 6, 7, 8

## S_SLW-1298856-5A-RA-N-D
designator S?
Switch; Manufacturer_Name: Same Sky; Manufacturer_Part_Number: SLW-1298856-5A-RA-N-D; Datasheet Link: https://www.sameskydevices.com/product/resource/slw-1298856-5a-ra-n-d.pdf; Height: 6.3mm
footprint SLW12988565ARAND
pins: 1 NC, 2 COM, 3 NO, 4 MH1, 5 MH2

## S_SMD_Jumper
designator S?, comment Lötpad
Lötverbinder
footprint S_SMD_Pad-NC
footprint S_SMD_Pad-NO
pins: 1 0, 2 1

## S_THT_DIP-SW-8
designator S?, comment Dip Switch
Dip Switch 8x
footprint DIP 2x8
pins: 1, 2, 3, 4, 5, 6, 7, 8, 9, 10, 11, 12, 13, 14, 15, 16

## S_THT_Jumper
designator S?, comment Jumper
footprint SIP-2 (LB-2024-04-17)
pins: 1 0, 2 1

## S_THT_Keyswitch Cherry
designator S?, comment Keyswitch
footprint S_THT_KeyswitchCherry (LB-2024-04-18)
part A pins: 1, 2
part B pins: 5, 6
part C pins: 3, 5
part D pins: 4, 5

## S_THT_Schalter 3-Pol.
designator S?, comment #Wert
Toggle Switch; MP: 100SP1T1B4M2QE; Value: *; Availability: Unavailable; Price: None; Package: None
footprint S_THT_SW-3Pol
pins: 1, 2, 3

## S_THT_Spannungswechsler
designator S?, comment Spannungswechsler
footprint J_2x2 (LB-2024-05-28)
pins: 1 - IN, 2 +OUT, 3 +IN, 4 -OUT

## S_THT_Taster
designator S?, comment #Wert
Taster
footprint S_THT_Taster2kl. (LB-2024-04-17)
footprint S_THT_Taster4gr. (LB-2024-04-17)
footprint S_THT_Taster4kl. (LB-2024-04-17)
footprint S_THT_TasterKomb. (LB-2024-04-17)
pins: 1, 2

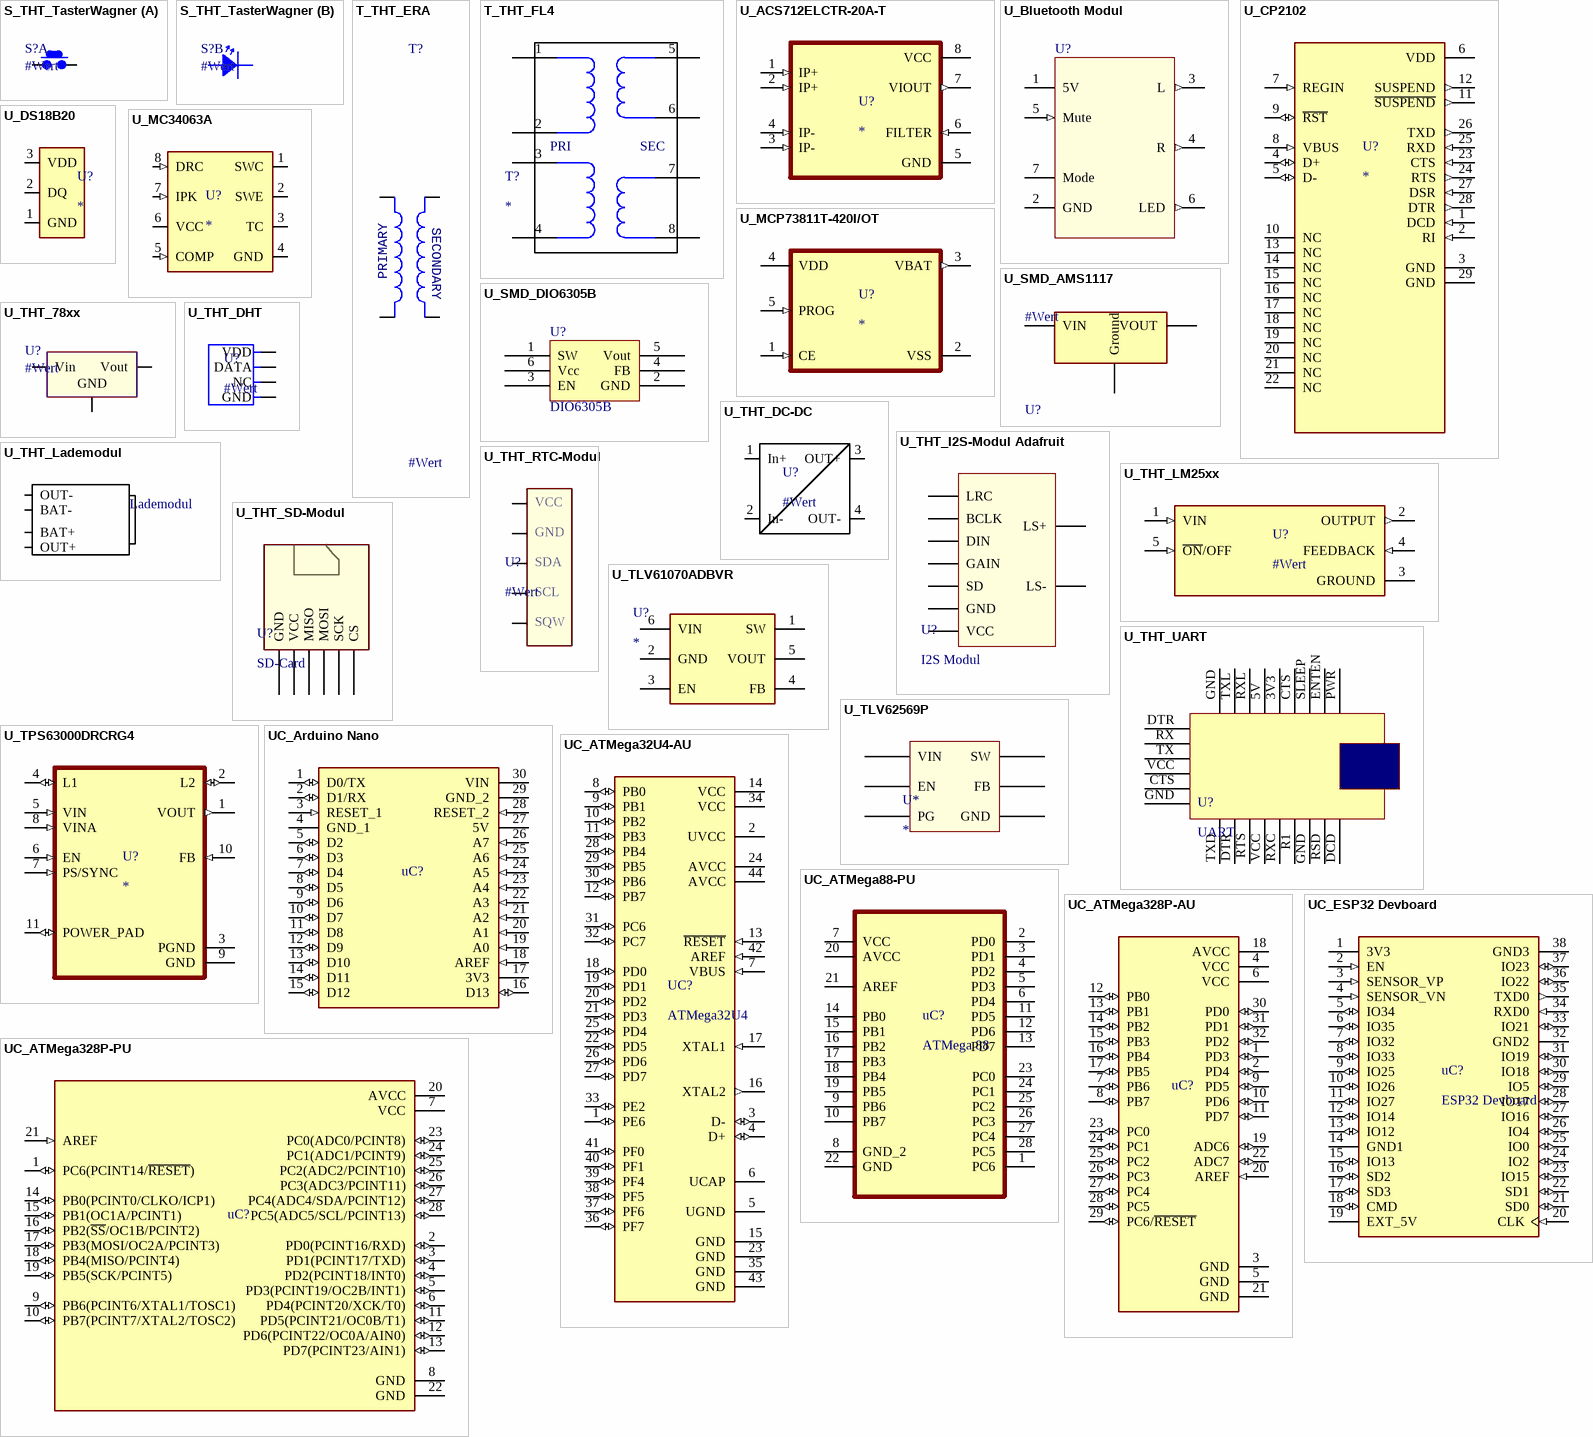
[diagram p4: symbols S_THT_TasterWagner to UC_ESP32 Devboard]

## S_THT_TasterWagner
designator S?, comment #Wert
Taster von Professor Herbert Wagner
footprint S_THT_TasterWagner (LB-2024-04-17)
part A pins: 1, 2
part B pins: 3 A, 4 K

## T_THT_ERA
designator T?, comment #Wert
Trafo ERA
footprint T_THT_ERA6V (LB-2024-04-17)
pins: 1 230V, 2 230V, 3 16V, 4 16V
text: SECONDARY; PRIMARY

## T_THT_FL4
designator T?
Flachtrafo von Block 4VA / 2x Primär / 2x Sekundär
footprint FL_4_Trafo
pins: 1, 2, 3, 4, 5, 6, 7, 8
text: PRI; SEC

## U_ACS712ELCTR-20A-T
designator U?
Current Sensor 20A 1 Channel Hall Effect, Open Loop Bidirectional 8-SOIC (0.154, 3.90mm Width); MF: Allegro; MP: ACS712ELCTR-20A-T; Value: *; Purchase-URL: https://pricing.snapeda.com/search/part/ACS712ELCTR-20A-T/?ref=eda; Package: SOIC-8 Allegro MicroSystems LLC; Availability: In Stock; Check_prices: https://www.snapeda.com/parts/ACS712ELCTR-20A-T/Allegro+Industries/view-part/?ref=eda; Price: None; SnapEDA_Link: https://www.snapeda.com/parts/ACS712ELCTR-20A-T/Allegro+Industries/view-part/?ref=snap
footprint SO-8 (LB-2024-04-17)
pins: 1 IP+ (in), 2 IP+ (in), 3 IP- (in), 4 IP- (in), 5 GND (power), 6 FILTER (in), 7 VIOUT (out), 8 VCC (power)

## U_Bluetooth Modul
designator U?, comment Bluetooth-Audio-DIY-Modul  (value not drawn)
Bluetooth Modul
footprint U_BluetoothModul SIP7 (LB-2024-04-19)
pins: 1 5V (power), 2 GND (power), 3 L (out), 4 R (out), 5 Mute (in), 6 LED (out), 7 Mode

## U_CP2102
designator U?
CP2102N USB 2.0 to UART (RS232) Bridge Interface Evaluation Board; MF: Silicon Labs; MP: CP2102; Purchase-URL: https://pricing.snapeda.com/search/part/CP2102/?ref=eda; Package: WFQFN-20 Silicon Labs; Value: *; Check_prices: https://www.snapeda.com/parts/CP2102/Silicon+Labs/view-part/?ref=eda; SnapEDA_Link: https://www.snapeda.com/parts/CP2102/Silicon+Labs/view-part/?ref=snap; Availability: In Stock; Price: None
footprint QFN50P500X500X100-29N
pins: 1 DCD (in), 2 RI (in), 3 GND (power), 4 D+ (io), 5 D- (io), 6 VDD (power), 7 REGIN (in), 8 VBUS (in), 9 ~{RST} (io), 10 NC, 11 ~{SUSPEND} (out), 12 SUSPEND (out), 13 NC, 14 NC, 15 NC, 16 NC, 17 NC, 18 NC, 19 NC, 20 NC, 21 NC, 22 NC, 23 CTS (in), 24 RTS (out), 25 RXD (in), 26 TXD (out), 27 DSR (in), 28 DTR (out), 29 GND (power)

## U_DS18B20
designator U?
Temperature Sensor Digital, Local -55Â°C ~ 125Â°C 12 b 8-uMAX-EP¦8-uSOP-EP; MF: Maxim; MP: DS18B20; Value: *; SnapEDA_Link: https://www.snapeda.com/parts/DS18B20/Maxim+Integrated/view-part/?ref=snap; Purchase-URL: https://pricing.snapeda.com/search/part/DS18B20/?ref=eda; Availability: In Stock; Price: None; Package: TO-226-3 Maxim; Check_prices: https://www.snapeda.com/parts/DS18B20/Maxim+Integrated/view-part/?ref=eda
footprint TO-92_DS18B20
pins: 1 GND (power), 2 DQ (io), 3 VDD (power)

## U_MC34063A
designator U?
Buck, Boost Switching Regulator IC Positive or Negative Adjustable 1.25V 1 Output 1.5A _Switch_ 8-SOIC _0.154, 3.90mm Width_; MP: MC34063A; MF: Texas Instruments; Package: SOIC-8 Texas Instruments; Availability: Unavailable; Price: None; Value: *; SnapEDA_Link: https://www.snapeda.com/parts/MC34063A/Texas%20Instruments/view-part/581314/?ref=snap
footprint SO-8 (LB-2024-04-17)
pins: 1 SWC (io), 2 SWE (io), 3 TC, 4 GND (power), 5 COMP (in), 6 VCC (power), 7 IPK (in), 8 DRC (in)

## U_MCP73811T-420I/OT
designator U?
Charger IC Lithium Ion/Polymer SOT-23-5; MF: Microchip; MP: MCP73811T-420I/OT; Availability: In Stock; SnapEDA_Link: https://www.snapeda.com/parts/MCP73811T-420I/OT/Microchip/view-part/?ref=snap; Price: None; Check_prices: https://www.snapeda.com/parts/MCP73811T-420I/OT/Microchip/view-part/?ref=eda; Package: SOT-23 Microchip; Value: *; Purchase-URL: https://pricing.snapeda.com/search/part/MCP73811T-420I/OT/?ref=eda
footprint SOT95P280X145-5N
pins: 1 CE (in), 2 VSS (power), 3 VBAT (out), 4 VDD (power), 5 PROG (in)

## U_SMD_AMS1117
designator U?, comment #Wert
Linearwandler; Manufacturer Part Number: AMS1117-3.3; Manufacturer: Advanced Monolithic Systems; Dropout Voltage: 1.1V; Output Type: Fixed; Nominal Supply Current: 5mA; Output Current: 1A; Output Voltage: 3.3V; Max Power Dissipation: 1.2W; Max Supply Voltage: 15V; Number Of Outputs: 1; Standoff Height: 0.64mm; Max Junction Temp: +125°C; Height: 1.8mm; Package: AMS1117; Device Class L2: Power Management ICs; ComponentLink2Description: Datasheet; ComponentLink2URL: http://www.advanced-monolithic.com/pdf/ds1117.pdf; Category: IC; RoHS: TRUE; Automotive: No; Device Class L1: Integrated Circuits (ICs); Device Class L3: Voltage Regulators - Linear; Temperature: -40°C to +125°C; Temperature Range Low: -40°C; Octopart: https://octopart.com/ams1117-3.3-advanced+monolithic+systems-25899300; Lead Free: Yes; Ipc Land Pattern Name: SOT229P700X180-4; Temperature Range High: +125°C
footprint U_SMD_AMS1117
pins: 1 Ground (power), 2 VOUT, 3 VIN (power)

## U_SMD_DIO6305B
designator U?, comment DIO6305B
Step Up Converter
footprint SOT23-6 (LB-2024-04-25)
pins: 1 SW, 2 GND, 3 EN, 4 FB, 5 Vout, 6 Vcc

## U_THT_78xx
designator U?, comment #Wert
Linearwandler
footprint TO-220-3V (LB-2024-04-17)
footprint TO-220-3H (LB-2024-04-17)
pins: 1 Vin, 2 Vout, 3 GND

## U_THT_DC-DC
designator U?, comment #Wert
DC-DC Wandler
footprint U_THT_DCDC (LB-2024-04-17)
pins: 1 In+, 2 In-, 3 OUT+, 4 OUT-

## U_THT_DHT
designator U?, comment #Wert
Temparatur Sensor DHT11/DHT22
footprint U_THT_DHTxx (LB-2024-04-19)
pins: 1 VDD (power), 2 DATA (power), 3 NC, 4 GND (power)

## U_THT_I2S-Modul Adafruit
designator U?, comment I2S Modul
I2S Modul Adafruit
footprint U_THT_I2S-Modul-Adafruit (LB-2024-05-02)
pins: BCLK, DIN, GAIN, GND, LRC, LS+, LS-, SD, VIN VCC

## U_THT_Lademodul
designator U?, comment Lademodul
footprint U_THT_Lademodul (LB-2024-04-25)
pins: 1 OUT-, 2 BAT-, 3 BAT+, 4 OUT+

## U_THT_LM25xx
designator U?, comment #Wert
Spanungswandler Step Up/Down
footprint TO220-5V (LB-2024-0419)
footprint TO220-5H (LB-2024-04-19)
pins: 1 VIN (in), 2 OUTPUT (out), 3 GROUND (power), 4 FEEDBACK (in), 5 ~{ON}/OFF (in)

## U_THT_RTC-Modul
designator U?, comment #Wert
RTC Modul
footprint U_THT_RTC-ModulElegoo (LB-2024-04-19)
pins: 1, 2, 3, 4, 5
text: VCC; GND; SDA; SCL; SQW

## U_THT_SD-Modul
designator U?, comment SD-Card
SD-Modul f. z.B. Arduino o. ESP32
footprint U_THT_SDModulV (LB-2024-04-19)
footprint U_THT_SD-ModulH (LB-2024-04-19)
pins: 1 GND, 2 VCC, 3 MISO, 4 MOSI, 5 SCK, 6 CS

## U_THT_UART
designator U?, comment UART
UART Modul
footprint U_THT_UART-Modul (LB-2024-04-15)
pins: 3V3 13, 5V 12, CTS 14, CTS 19, DCD 8, DTR 1, DTR 23, ENTEN 16, GND 6, GND 9, GND 18, PWR 17, R1 5, RSD 7, RTS 2, RX 22, RXC 4, RXL 11, SLEEP 15, TX 21, TXD 0, TXL 10, VCC 3, VCC 20

## U_TLV61070ADBVR
designator U?
Integrated Circuit, Boost converter: Input 0.5 - 5.5V / Output 2.2 - 5.5V; Manufacturer_Name: Texas Instruments; Manufacturer_Part_Number: TLV61070ADBVR; Datasheet Link: https://www.ti.com/lit/ds/symlink/tlv61070a.pdf?HQS=dis-mous-null-mousermode-dsf-pf-null-wwe&ts=1668211309833&ref_url=https%253A%252F%252Fwww.mouser.com%252F; Height: 1.45mm; Mouser Part Number: 595-TLV61070ADBVR; Mouser Price/Stock: https://www.mouser.co.uk/ProductDetail/Texas-Instruments/TLV61070ADBVR?qs=T%252BzbugeAwjhLlT1empixsw%3D%3D; Arrow Part Number: TLV61070ADBVR; Arrow Price/Stock: https://www.arrow.com/en/products/tlv61070adbvr/texas-instruments?region=europe
footprint SOT23-6 (LB-2024-04-25)
pins: 1 SW, 2 GND, 3 EN, 4 FB, 5 VOUT, 6 VIN

## U_TLV62569P
designator U*
footprint SOT50P160X60-6N
pins: 1 FB, 2 GND, 3 VIN, 4 SW, 5 EN, 6 PG

## U_TPS63000DRCRG4
designator U?
High efficiency Buck-Boost Converter with 1.8A Current Switches in 3x3 QFN 10-VSON -40 to 85; MF: Texas Instruments; MP: TPS63000DRCRG4; Price: None; SnapEDA_Link: https://www.snapeda.com/parts/TPS63000DRCRG4/Texas%20Instruments/view-part/287688/?ref=snap; Value: *; Availability: Warning; Package: VSON-10 Texas Instruments; Purchase-URL: https://pricing.snapeda.com/search/part/TPS63000DRCRG4/?ref=eda
footprint VREG_V62/16624-01YE
pins: 1 VOUT (out), 2 L2 (io), 3 PGND (power), 4 L1 (io), 5 VIN (in), 6 EN (in), 7 PS/SYNC (in), 8 VINA (in), 9 GND (power), 10 FB (in), 11 POWER_PAD (io)

## UC_Arduino Nano
designator uC?, comment Arduino Nano  (value not drawn)
Microcontroller
footprint UC_Arduino-Nano (LB-2024-04-18)
pins: 1 D0/TX (io), 2 D1/RX (io), 3 RESET_1 (in), 4 GND_1 (power), 5 D2 (io), 6 D3 (io), 7 D4 (io), 8 D5 (io), 9 D6 (io), 10 D7 (io), 11 D8 (io), 12 D9 (io), 13 D10 (io), 14 D11 (io), 15 D12 (io), 16 D13 (io), 17 3V3 (power), 18 AREF (in), 19 A0 (in), 20 A1 (in), 21 A2 (in), 22 A3 (in), 23 A4 (in), 24 A5 (in), 25 A6 (in), 26 A7 (in), 27 5V (power), 28 RESET_2 (in), 29 GND_2 (power), 30 VIN (power)

## UC_ATMega32U4-AU
designator UC?, comment ATMega32U4
Microcontroller
footprint TQFP-44 (LB-2024-06-15)
pins: 1 PE6 (io), 2 UVCC (power), 3 D- (io), 4 D+ (io), 5 UGND (power), 6 UCAP, 7 VBUS (in), 8 PB0 (io), 9 PB1 (io), 10 PB2 (io), 11 PB3 (io), 12 PB7 (io), 13 ~{RESET} (in), 14 VCC (power), 15 GND (power), 16 XTAL2 (out), 17 XTAL1 (in), 18 PD0 (io), 19 PD1 (io), 20 PD2 (io), 21 PD3 (io), 22 PD5 (io), 23 GND (power), 24 AVCC (power), 25 PD4 (io), 26 PD6 (io), 27 PD7 (io), 28 PB4 (io), 29 PB5 (io), 30 PB6 (io), 31 PC6 (io), 32 PC7 (io), 33 PE2 (io), 34 VCC (power), 35 GND (power), 36 PF7 (io), 37 PF6 (io), 38 PF5 (io), 39 PF4 (io), 40 PF1 (io), 41 PF0 (io), 42 AREF (in), 43 GND (power), 44 AVCC (power)

## UC_ATMega88-PU
designator uC?, comment ATMega 88
Atmel ATMega88-PU; MP: ATMEGA88-20PU; Package: None; Price: None; Value: *; Availability: Unavailable
footprint DIP-28 (LB-2024-04-17)
pins: 1 PC6, 2 PD0, 3 PD1, 4 PD2, 5 PD3, 6 PD4, 7 VCC, 8 GND_2, 9 PB6, 10 PB7, 11 PD5, 12 PD6, 13 PD7, 14 PB0, 15 PB1, 16 PB2, 17 PB3, 18 PB4, 19 PB5, 20 AVCC, 21 AREF, 22 GND, 23 PC0, 24 PC1, 25 PC2, 26 PC3, 27 PC4, 28 PC5

## UC_ATMega328P-AU
designator uC?, comment ATMega328(p)-AU  (value not drawn)
Microcontroller
footprint TQFP-32 (LB-2024-04-19)
pins: 1 PD3 (io), 2 PD4 (io), 3 GND (power), 4 VCC (power), 5 GND (power), 6 VCC (power), 7 PB6 (io), 8 PB7 (io), 9 PD5 (io), 10 PD6 (io), 11 PD7 (io), 12 PB0 (io), 13 PB1 (io), 14 PB2 (io), 15 PB3 (io), 16 PB4 (io), 17 PB5 (io), 18 AVCC (power), 19 ADC6 (io), 20 AREF (in), 21 GND (power), 22 ADC7 (io), 23 PC0 (io), 24 PC1 (io), 25 PC2 (io), 26 PC3 (io), 27 PC4 (io), 28 PC5 (io), 29 PC6/~{RESET} (io), 30 PD0 (io), 31 PD1 (io), 32 PD2 (io)

## UC_ATMega328P-PU
designator uC?, comment ATMega328(p)-PU  (value not drawn)
Microcontroller
footprint DIP-28 (LB-2024-04-17)
pins: 1 PC6(PCINT14/~{RESET}) (io), 2 PD0(PCINT16/RXD) (io), 3 PD1(PCINT17/TXD) (io), 4 PD2(PCINT18/INT0) (io), 5 PD3(PCINT19/OC2B/INT1) (io), 6 PD4(PCINT20/XCK/T0) (io), 7 VCC (power), 8 GND (power), 9 PB6(PCINT6/XTAL1/TOSC1) (io), 10 PB7(PCINT7/XTAL2/TOSC2) (io), 11 PD5(PCINT21/OC0B/T1) (io), 12 PD6(PCINT22/OC0A/AIN0) (io), 13 PD7(PCINT23/AIN1) (io), 14 PB0(PCINT0/CLKO/ICP1) (io), 15 PB1(OC1A/PCINT1) (io), 16 PB2(~{SS}/OC1B/PCINT2) (io), 17 PB3(MOSI/OC2A/PCINT3) (io), 18 PB4(MISO/PCINT4) (io), 19 PB5(SCK/PCINT5) (io), 20 AVCC (power), 21 AREF (in), 22 GND (power), 23 PC0(ADC0/PCINT8) (io), 24 PC1(ADC1/PCINT9) (io), 25 PC2(ADC2/PCINT10) (io), 26 PC3(ADC3/PCINT11) (io), 27 PC4(ADC4/SDA/PCINT12) (io), 28 PC5(ADC5/SCL/PCINT13) (io)

## UC_ESP32 Devboard
designator uC?, comment ESP32 Devboard
ESP32 WROOM Devboard
footprint UC_ESP32-WROOM (LB-2024-04-18)
pins: 1 3V3 (power), 2 EN (in), 3 SENSOR_VP (in), 4 SENSOR_VN (in), 5 IO34 (io), 6 IO35 (io), 7 IO32 (io), 8 IO33 (io), 9 IO25 (io), 10 IO26 (io), 11 IO27 (io), 12 IO14 (io), 13 IO12 (io), 14 GND1 (power), 15 IO13 (io), 16 SD2 (io), 17 SD3 (io), 18 CMD (io), 19 EXT_5V (power), 20 CLK (in), 21 SD0 (io), 22 SD1 (io), 23 IO15 (io), 24 IO2 (io), 25 IO0 (io), 26 IO4 (io), 27 IO16 (io), 28 IO17 (io), 29 IO5 (io), 30 IO18 (io), 31 IO19 (io), 32 GND2 (power), 33 IO21 (io), 34 RXD0 (in), 35 TXD0 (out), 36 IO22 (io), 37 IO23 (io), 38 GND3 (power)

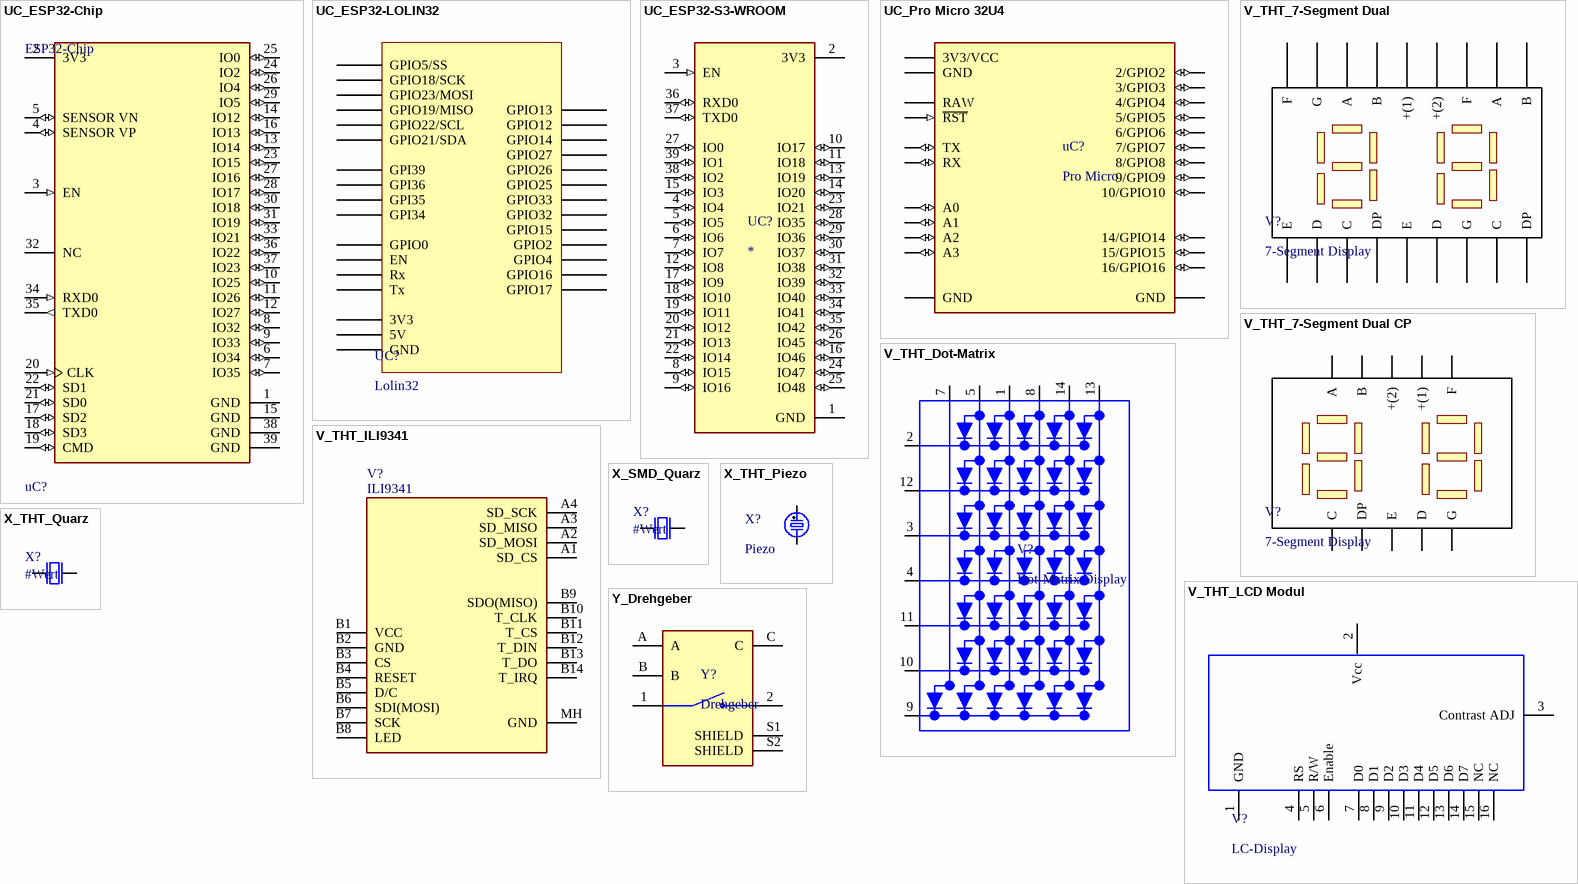
[diagram p5: symbols UC_ESP32-Chip to Y_Drehgeber]

## UC_ESP32-Chip
designator uC?, comment ESP32-Chip
Microcontroller Chip Only
footprint UC_SMD_ESP32 Chip (LB-2024-04-18)
pins: 1 GND (power), 2 3V3 (power), 3 EN (in), 4 SENSOR VP (io), 5 SENSOR VN (io), 6 IO34 (io), 7 IO35 (io), 8 IO32 (io), 9 IO33 (io), 10 IO25 (io), 11 IO26 (io), 12 IO27 (io), 13 IO14 (io), 14 IO12 (io), 15 GND (power), 16 IO13 (io), 17 SD2 (io), 18 SD3 (io), 19 CMD (io), 20 CLK (in), 21 SD0 (io), 22 SD1 (io), 23 IO15 (io), 24 IO2 (io), 25 IO0 (io), 26 IO4 (io), 27 IO16 (io), 28 IO17 (io), 29 IO5 (io), 30 IO18 (io), 31 IO19 (io), 32 NC, 33 IO21 (io), 34 RXD0 (in), 35 TXD0 (out), 36 IO22 (io), 37 IO23 (io), 38 GND (power), 39 GND (power)

## UC_ESP32-LOLIN32
designator UC?, comment Lolin32
ESP32 WMOS LOLIN32
footprint UC_WemosLolin32 (LB-2024-04-20)
pins: 1 3V3, 2 EN, 3 GPI36, 4 GPI39, 5 GPIO32, 6 GPIO33, 7 GPI34, 8 GPI35, 9 GPIO25, 10 GPIO26, 11 GPIO27, 12 GPIO14, 13 GPIO12, 14 GPIO13, 15 5V, 16 GND, 17 Tx, 18 Rx, 19 GPIO22/SCL, 20 GPIO21/SDA, 21 GPIO19/MISO, 22 GPIO23/MOSI, 23 GPIO18/SCK, 24 GPIO5/SS, 25 GPIO17, 26 GPIO16, 27 GPIO4, 28 GPIO0, 29 GPIO2, 30 GPIO15

## UC_ESP32-S3-WROOM
designator UC?
Bluetooth, WiFi 802.11b/g/n, Bluetooth v5.0 Transceiver Module 2.4GHz PCB Trace Surface Mount; MF: Espressif Systems; MP: ESP32-S3-WROOM-1-N8R8; Package: None; Price: None; Check_prices: https://www.snapeda.com/parts/ESP32-S3-WROOM-1-N8R8/Espressif+Systems/view-part/?ref=eda; Value: *; SnapEDA_Link: https://www.snapeda.com/parts/ESP32-S3-WROOM-1-N8R8/Espressif+Systems/view-part/?ref=snap; Availability: In Stock; Purchase-URL: https://pricing.snapeda.com/search?q=ESP32-S3-WROOM-1-N8R8&ref=eda
footprint XCVR_ESP32S3WROOM1N8R8
pins: 1 GND (power), 2 3V3 (power), 3 EN (in), 4 IO4 (io), 5 IO5 (io), 6 IO6 (io), 7 IO7 (io), 8 IO15 (io), 9 IO16 (io), 10 IO17 (io), 11 IO18 (io), 12 IO8 (io), 13 IO19 (io), 14 IO20 (io), 15 IO3 (io), 16 IO46 (io), 17 IO9 (io), 18 IO10 (io), 19 IO11 (io), 20 IO12 (io), 21 IO13 (io), 22 IO14 (io), 23 IO21 (io), 24 IO47 (io), 25 IO48 (io), 26 IO45 (io), 27 IO0 (io), 28 IO35 (io), 29 IO36 (io), 30 IO37 (io), 31 IO38 (io), 32 IO39 (io), 33 IO40 (io), 34 IO41 (io), 35 IO42 (io), 36 RXD0 (io), 37 TXD0 (io), 38 IO2 (io), 39 IO1 (io)

## UC_Pro Micro 32U4
designator uC?, comment Pro Micro
ATMega 32U4
footprint UC_Pro Micro 32U4 (LB-2024-04-18)
pins: J3_1 9/GPIO9 (io), J3_2 8/GPIO8 (io), J3_3 7/GPIO7 (io), J3_4 6/GPIO6 (io), J3_5 5/GPIO5 (io), J3_6 4/GPIO4 (io), J3_7 3/GPIO3 (io), J3_8 2/GPIO2 (io), J3_9 GND (power), J3_10 GND (power), J3_11 RX (io), J3_12 TX (io), J4_1 RAW (power), J4_2 GND (power), J4_3 ~{RST} (in), J4_4 3V3/VCC (power), J4_5 A3 (io), J4_6 A2 (io), J4_7 A1 (io), J4_8 A0 (io), J4_9 15/GPIO15 (io), J4_10 14/GPIO14 (io), J4_11 16/GPIO16 (io), J4_12 10/GPIO10 (io)

## V_THT_7-Segment Dual
designator V?, comment 7-Segment Display
7 Segment Display
footprint V_THT_7Segment-Gr. (LB-2024-04-19)
footprint V_THT_7Segement-Kl. (LB-2024-04-19)
pins: 1 E, 2 D, 3 C, 4 DP, 5 E, 6 D, 7 G, 8 C, 9 DP, 10 B, 11 A, 12 F, 13 +(2), 14 +(1), 15 B, 16 A, 17 G, 18 F

## V_THT_7-Segment Dual CP
designator V?, comment 7-Segment Display
7 Segment Display Common Pins
footprint V_THT_7Segment-CP (LB-2024-04-19)
pins: 1 C, 2 DP, 3 E, 4 D, 5 G, 6 F, 7 +(1), 8 +(2), 9 B, 10 A

## V_THT_Dot-Matrix
designator V?, comment Dot-Matrix Display
Dot Matrix Display Module 5 x 7 Common Cathode Row, Common Anode Column Green 2.1V 0.39 L x 0.73 W x 0.14 H (9.80mm x 18.50mm x 3.50mm)
footprint DIP 2x7 (LB-2024-04-19)
pins: 1 ANODE_COLUMN_2, 2 CATHODE_ROW_1, 3 CATHODE_ROW_3, 4 CATHODE_ROW_4, 5 ANODE_COLUMN_1, 7 ANODE_DECIMAL_POINT, 8 ANODE_COLUMN_3, 9 CATHODE_ROW_7, 10 CATHODE_ROW_6, 11 CATHODE_ROW_5, 12 CATHODE_ROW_2, 13 ANODE_COLUMN_5, 14 ANODE_COLUMN_4

## V_THT_ILI9341
designator V?, comment ILI9341
Color 320x240 TFT Touchscreen, ILI9341 Controller Chip
footprint V_THT_ILI9341 (LB-2024-04-19)
pins: A1 SD_CS, A2 SD_MOSI, A3 SD_MISO, A4 SD_SCK, B1 VCC, B2 GND, B3 CS, B4 RESET, B5 D/C, B6 SDI(MOSI), B7 SCK, B8 LED, B9 SDO(MISO), B10 T_CLK, B11 T_CS, B12 T_DIN, B13 T_DO, B14 T_IRQ, MH GND

## V_THT_LCD Modul
designator V?, comment LC-Display
LCD
footprint V_THT_WM-C1610M (LB-2024-04-19)
pins: 1 GND, 2 Vcc, 3 Contrast ADJ, 4 RS, 5 R/W, 6 Enable, 7 D0, 8 D1, 9 D2, 10 D3, 11 D4, 12 D5, 13 D6, 14 D7, 15 NC, 16 NC

## X_SMD_Quarz
designator X?, comment #Wert
Quarz SMD
footprint X_SMD_XTAL (LB-2024-04-17)
pins: 1, 2

## X_THT_Piezo
designator X?, comment Piezo
Piezobuzzer
footprint X_THT_PIEZZO (LB-2024-04-18)
pins: 1, 2

## X_THT_Quarz
designator X?, comment #Wert
Quarz THT
footprint X_THT_XTAL (LB-2024-04-17)
pins: 1, 2

## Y_Drehgeber
designator Y?, comment Drehgeber
footprint Y_Drehgeber1 (LB-2024-04-19)
pins: 1, 2, A, B, C, S1 SHIELD, S2 SHIELD